# Altium schematic symbol library LT1964-BYP.Schlib: 1 symbol
Pins are listed as number, name and electrical type; pins without a type are passive.

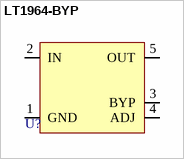
[diagram p0: symbol LT1964-BYP]

## LT1964-BYP
designator U?
pins: 1 GND, 2 IN, 3 BYP, 4 ADJ, 5 OUT